# Altium schematic symbol library SN74LVC2G08DCUR.Schlib: 1 symbol
Pins are listed as number, name and electrical type; pins without a type are passive.

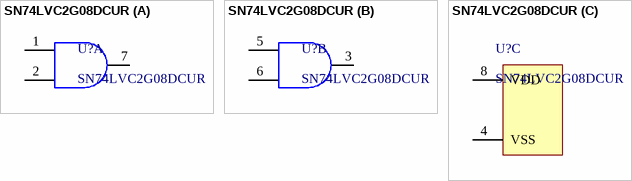
[diagram p0: symbol SN74LVC2G08DCUR]

## SN74LVC2G08DCUR
designator U?
AND Gate IC 2 Channel 8-VSSOP
part A pins: 1 1A, 2 1B, 7 1Y
part B pins: 3 2Y, 5 2A, 6 2B
part C pins: 4 VSS, 8 VDD